# EAGLE library part MCP24LC025 (library thomas_library)
The MCP24LC025 is a 2k (8 x 256) I2C EEPROM
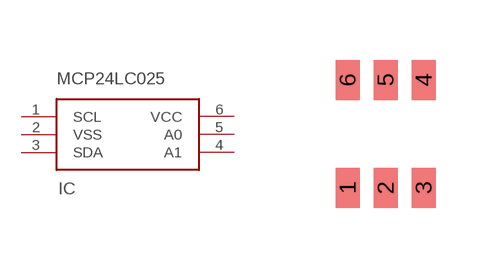
[diagram p10: symbol with the pads of SOT-23-6; footprint SOT-23-6]

Designator prefix IC

## MCP24LC025  [SOT-23-6]
1  SCL
2  VSS
3  SDA
4  A1
5  A0
6  VCC

## Footprint SOT-23-6 (pad centres in mm)
This SOT-23-6 footprint has 0.6mm x 1.0mm pads, 0.95mm spacing, 2.7mm diameter. Verified 8/15/2011
smd 0.6 x 1: 1 -0.95,-1.35; 2 0,-1.35; 3 0.95,-1.35; 4 0.95,1.35; 5 0,1.35; 6 -0.95,1.35